# EAGLE library part LOGIC,NOR,QUAD2INPUT (library QuantumOptics)
Quad NOR, 2-input, such as 74HC02 or 74HC7002 (Schmitt).
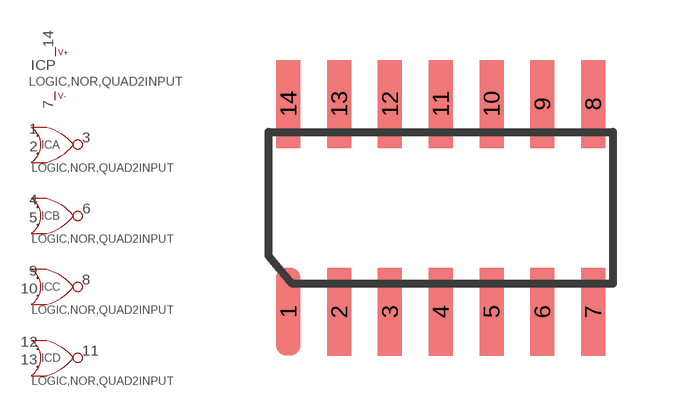
[diagram p192: symbol with the pads of SOIC-14; footprint SOIC-14]

Designator prefix IC; gates A=LOGIC,NOR,2INPUT B=LOGIC,NOR,2INPUT C=LOGIC,NOR,2INPUT D=LOGIC,NOR,2INPUT P=PWR+-

## LOGIC,NOR,QUAD2INPUT  [SOIC-14]
1  A:INA  in
2  A:INB  in
3  A:OUT  out
4  B:INA  in
5  B:INB  in
6  B:OUT  out
7  P:V-
8  C:OUT  out
9  C:INA  in
10  C:INB  in
11  D:OUT  out
12  D:INA  in
13  D:INB  in
14  P:V++

## Footprint SOIC-14 (pad centres in mm)
Small Outline Package 14
smd 0.6 x 2.2: 1 -3.81,-2.6; 2 -2.54,-2.6; 3 -1.27,-2.6; 4 0,-2.6; 5 1.27,-2.6; 6 2.54,-2.6; 7 3.81,-2.6; 8 3.81,2.6; 9 2.54,2.6; 10 1.27,2.6; 11 0,2.6; 12 -1.27,2.6; 13 -2.54,2.6; 14 -3.81,2.6